# Altium footprint library SAMTEC_ESQ-117-12-L-D.PcbLib: 1 footprints
Each footprint in its own frame and in the unit in brackets; x right, y up, seen from the top. Pads: shape width x height; smd on the part's side, far side on the other; paste and mask are expansions set on the pad; w line width, h text height; cw(c..) or ccw(c..) is an arc to the next point about the centre after c.
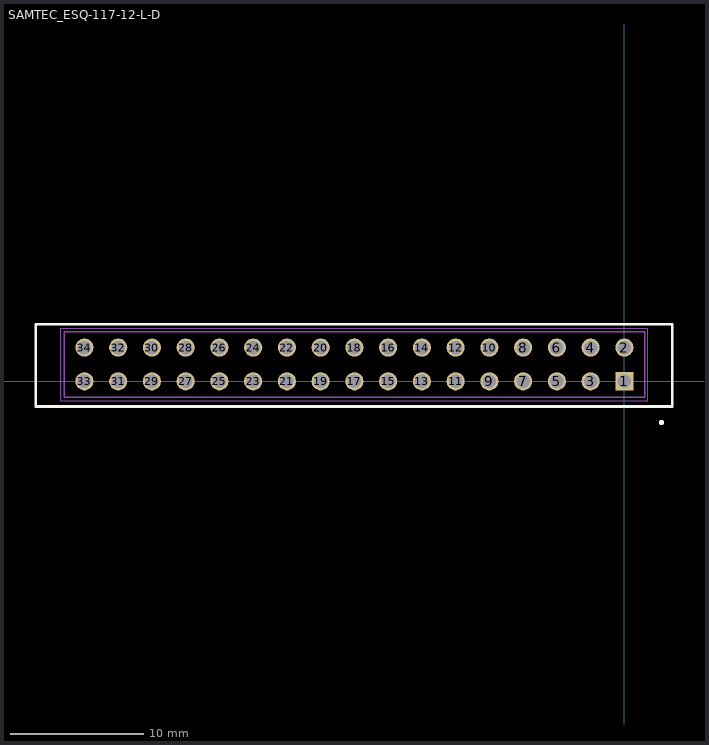
[diagram p0: the footprint, top view; thin cyan lines are the x and y axes]

## SAMTEC_ESQ-117-12-L-D [mm]
pads (34):
  rect 1.37x1.37 hole 1.02: 1(0,0)
  round 1.37 hole 1.02: 2(0,2.54) 3(-2.54,0) 4(-2.54,2.54) 5(-5.08,0) 6(-5.08,2.54) 7(-7.62,0) 8(-7.62,2.54) 9(-10.16,0) 10(-10.16,2.54) 11(-12.7,0) 12(-12.7,2.54) 13(-15.24,0) 14(-15.24,2.54) 15(-17.78,0) 16(-17.78,2.54) 17(-20.32,0) 18(-20.32,2.54) 19(-22.86,0) 20(-22.86,2.54) 21(-25.4,0) 22(-25.4,2.54) 23(-27.94,0) 24(-27.94,2.54) 25(-30.48,0) 26(-30.48,2.54) 27(-33.02,0) 28(-33.02,2.54) 29(-35.56,0) 30(-35.56,2.54) 31(-38.1,0) 32(-38.1,2.54) 33(-40.64,0) 34(-40.64,2.54)
Top Overlay:
  circle w0.2: c2.8,-3.1 r0.1
  lines w0.2: -44.3,-1.9 3.6,-1.9 3.6,4.3 -44.3,4.3 -44.3,-1.9
Mechanical 13:
  circle w0.2: c2.8,-3.1 r0.1
  lines w0.1: -42.165,-1.205 -42.165,3.745 ; -42.165,-1.205 1.525,-1.205 ; -42.165,-1.205 -42.165,3.745 ; -42.165,3.745 1.525,3.745 ; -42.165,3.745 1.525,3.745 ; 1.525,-1.205 1.525,3.745 ; 1.525,-1.205 1.525,3.745
Mechanical 15:
  lines w0.05: -42.415,-1.455 1.775,-1.455 1.775,3.995 -42.415,3.995 -42.415,-1.455
3D body "HIF3FB-34DA-2.54DSA.stp": height 9.5, standoff -3, extent -44.205,-2.95 3.545,4.25